# Altium integrated library RCL.IntLib: 7 symbols
Pins are listed as number, name and electrical type; pins without a type are passive.

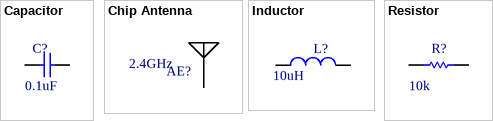
[diagram p0: symbols Capacitor to Resistor]

## Capacitor
designator C?, comment value 0.1uF  (hidden comment: Cap)
Chip Capacitor
footprint 1206
footprint 0805
footprint 0603
footprint 0402
pins: 1, 2

## Chip Antenna
designator AE?  Operating Frequency: 2.4GHz  (hidden comment: Chip Antenna)
Value: 10uH
footprint 1206
footprint 0805
pins: 1

## Inductor
designator L?  value 10uH  (hidden comment: Inductor)
Chip Inductor
footprint 1206
footprint 0805
footprint 0603
footprint 0402
pins: 1, 2

## Resistor
designator R?  value 10k  (hidden comment: Resistor)
Chip Resistor
footprint 1206
footprint 0805
footprint 0603
footprint 0402
pins: 1, 2


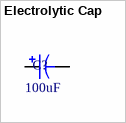
[diagram p1: symbol Electrolytic Cap]

## Electrolytic Cap
designator C?, comment value 100uF  (hidden comment: Cap)
Electrolytic Cap; Manufacturer Part No.: UWT1V101MCL1GS; Vmax: 35V; Digi-Key Part No.: 493-2203-1-ND
footprint aluminum electrolytic (6.3x7.7, 100uF, 35V aluminum electrolytic cap)
footprint Aluminum Electrolytic Short (6.3x5.8mm, 100uF, 35V aluminum electrolytic cap)
pins: 1, 2


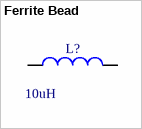
[diagram p2: symbol Ferrite Bead]

## Ferrite Bead
designator L?, comment value 10uH  (hidden comment: Ferrite)
Ferrite Bead; Manufacturer Part No: VLS201612ET-100M; ComponentLink1URL: https://product.tdk.com/info/en/documents/catalog/inductor_commercial_power_vls201612e_en.pdf; Digi-Key Part Number: 445-6617-1-ND; ComponentLink1Description: Datasheet
footprint VLS201612E-CA Inductor (VLS201612E-CA Ferrite Inductor)
pins: 1, 2


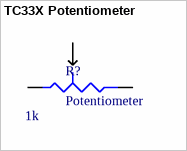
[diagram p3: symbol TC33X Potentiometer]

## TC33X Potentiometer
designator R?, comment Potentiometer  value 1k
Manufacturer Part No.: TC33X-2-201E; Digi-Key Part No.: TC33X-2-201ECT-ND
footprint TC33X-2 (TC33X-2 Trimpot)
pins: 1 A, 2 B, 3 TAP